# Altium schematic symbol library sch.SchLib: 22 symbols
Pins are listed as number, name and electrical type; pins without a type are passive.

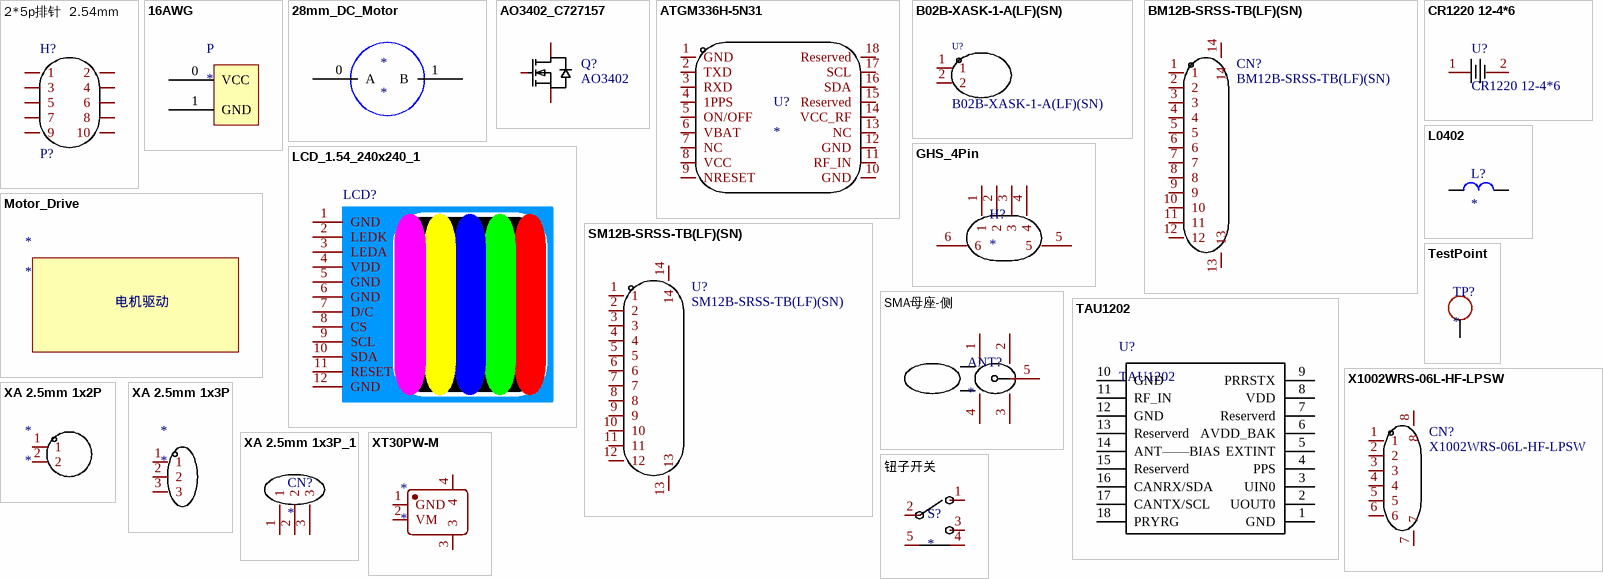
[diagram p0: symbols 2*5p排针  2.54mm to 钮子开关]

## 2*5p排针  2.54mm
designator H?  Header: P?  (hidden comment: 2*5p排针  2.54mm)
排针、排座、跳线帽/2.54mm2*40P直排针环保http://www.360yuanjian.com/product/details_2707.html和这个一样，但是是2*5P的; Symbol: Header-Male-2.54_2x5; Add into BOM: yes; Device: 2*5p排针  2.54mm; LCSC Part Name: 2.54mm 2*5p 排针; Supplier Part: C28207; Manufacturer Part: 2*5p排针  2.54mm; Supplier Footprint: Through Hole; JLCPCB Part Class: 扩展库; Datasheet: https://atta.szlcsc.com/upload/public/pdf/source/20140331/1457707039232.pdf; Supplier: LCSC; Convert to PCB: yes
3D model HDR2.54-M-LI-2X5P
footprint Header_2.54_2*5pin
pins: 1, 2, 3, 4, 5, 6, 7, 8, 9, 10

## 16AWG
designator P
footprint 16AWG
pins: 0 VCC, 1 GND

## 28mm_DC_Motor
designator *
footprint 28mm_DC_Motor
pins: 0 A, 1 B

## AO3402_C727157
designator Q?, comment AO3402
类型:-;漏源电压(Vdss):-;连续漏极电流(Id):-;功率(Pd):-;导通电阻(RDS(on)@Vgs,Id):-;阈值电压(Vgs(th)@Id):-;栅极电荷(Qg@Vgs):-;输入电容(Ciss@Vds):-;反向传输电容(Crss@Vds):-;; Manufacturer: TWGMC(台湾迪嘉); Symbol: AO3402_C727157; Add into BOM: yes; Device: AO3402_C727157; LCSC Part Name: AO3402; Supplier Part: C727157; Manufacturer Part: AO3402; Supplier Footprint: SOT23; JLCPCB Part Class: Extended Part; Datasheet: https://atta.szlcsc.com/upload/public/pdf/source/20200827/C727157_24A5691800B930A9C9FEB89C478A4123.pdf; Supplier: LCSC; Convert to PCB: yes; Type: -; Drain Source Voltage (Vdss): -; Continuous Drain Current (Id): -; Power Dissipation (Pd): -; Drain Source On Resistance (RDS(on)@Vgs,Id): -; Gate Threshold Voltage (Vgs(th)@Id): -; Total Gate Charge (Qg@Vgs): -; Input Capacitance (Ciss@Vds): -; Reverse Transfer Capacitance (Crss@Vds): -; Name: AO3402
footprint SOT-23-3_L2.9-W1.4-P1.91-LS2.6-BR
3D model SOT-23-3_L2.9-W1.4-P1.91-LS2.6-BR
pins: 1 G, 2 S, 3 D

## ATGM336H-5N31
designator U?
C90770
footprint ATGM336H-5N31
pins: 1 GND, 2 TXD, 3 RXD, 4 1PPS, 5 ON/OFF, 6 VBAT, 7 NC, 8 VCC, 9 NRESET, 10 GND, 11 RF_IN, 12 GND, 13 NC, 14 VCC_RF, 15 Reserved, 16 SDA, 17 SCL, 18 Reserved

## B02B-XASK-1-A(LF)(SN)
designator U?
参考系列:XA;间距:2.5mm;插针结构:1x2P;排数:1;每排PIN数:2;行距:-;安装方式:-;触头材质:铜合金;; Manufacturer: JST; Add into BOM: yes; Reference Series: XA; Pitch: 2.5mm; Pins Structure: 1x2P; Number of PINs Per Row: 2; Symbol: B02B-XASK-1-A(LF)(SN); Device: B02B-XASK-1-A(LF)(SN); LCSC Part Name: XA 2.5mm 1x2P; Supplier Part: C265077; Manufacturer Part: B02B-XASK-1-A(LF)(SN); Supplier Footprint: 插件,P=2.5mm; JLCPCB Part Class: Extended Part; Datasheet: https://atta.szlcsc.com/upload/public/pdf/source/20180829/C265077_AACBE43BFB9344D794AFC81CB60287FF.pdf; Supplier: LCSC; Convert to PCB: yes; Number of Rows: 1; Row Spacing: -; Mounting Style: -; Contact Material: 铜合金; Name: B02B-XASK-1-A(LF)(SN)
footprint CONN-TH_B02B-XASK-1-A-LF-SN
3D model CONN-TH_B02B-XASK-1-A-LF-SN
pins: 1, 2

## BM12B-SRSS-TB(LF)(SN)
designator CN?
参考系列:SH;间距:1mm;插针结构:1x12P;排数:1;每排PIN数:12;行距:-;公母:公型插针;安装方式:立贴;额定电流:1A;工作温度范围:-25℃~+85℃;; Manufacturer: JST; Add into BOM: yes; Reference Series: SH; Pitch: 1mm; Pins Structure: 1x12P; Number of PINs Per Row: 12; Gender: 公型插针; Current Rating (Max): 1A; Symbol: BM12B-SRSS-TB(LF)(SN); Device: BM12B-SRSS-TB(LF)(SN); LCSC Part Name: SH 1mm 1x12P 立贴; Supplier Part: C160398; Manufacturer Part: BM12B-SRSS-TB(LF)(SN); Supplier Footprint: SMD,P=1mm; JLCPCB Part Class: Extended Part; Datasheet: https://atta.szlcsc.com/upload/public/pdf/source/20200303/C160398_664CE80E7D34876E749B6A3BF9622536.pdf; Supplier: LCSC; Convert to PCB: yes; Number of Rows: 1; Row Spacing: -; Mounting Style: 立贴; Operating Temperature Range: -25℃~+85℃; Name: BM12B-SRSS-TB(LF)(SN)
footprint BM12B-SRSS-TB(LF)(SN)
pins: 1, 2, 3, 4, 5, 6, 7, 8, 9, 10, 11, 12, 13, 14

## CR1220 12-4*6
designator U?, comment Name: CR1220 12-4*6  (hidden comment: C70380)
电池；C70380; Manufacturer: Q&J; Add into BOM: yes; Symbol: CR1220 12-4*6; Device: CR1220 12-4*6; LCSC Part Name: Q&J卧式焊脚纽扣电池 CR1220; Supplier Part: C70380; Manufacturer Part: CR1220 12-4*6; Supplier Footprint: -; JLCPCB Part Class: Extended Part; Datasheet: https://atta.szlcsc.com/upload/public/pdf/source/20160427/1461725216655.pdf; Supplier: LCSC; Convert to PCB: yes
footprint CR1220 12-4*6
pins: 1, 2

## GHS_4Pin
designator H?
footprint GHS_4Pin
pins: 1, 2, 3, 4, 5, 6

## L0402
designator L?
电感
footprint CAPC1005[0402]S-N (0402贴片电容 有丝印 2脚 1.00x0.50mm IPC中密度)
pins: 1, 2

## LCD_1.54_240x240_1
designator LCD?, comment LCD_1.54_240x240  (value not drawn)
https://item.taobao.com/item.htm?spm=a1z0d.6639537/tb.1997196601.56.26747484fjFH0T&id=600653923469; Convert to PCB: yes; Symbol: LCD_1.54_240x240; Device: LCD_1.54_240x240; Add into BOM: yes
footprint LCD_1.54_240x240_1
pins: 1 GND, 2 LEDK, 3 LEDA, 4 VDD, 5 GND, 6 GND, 7 D/C, 8 CS, 9 SCL, 10 SDA, 11 RESET, 12 GND

## Motor_Drive
designator *
footprint Motor_Drive
text: 电机驱动

## SM12B-SRSS-TB(LF)(SN)
designator U?
参考系列:SR/SZ;间距:1mm;插针结构:1x12P;排数:1;每排PIN数:12;行距:-;安装方式:-;触头材质:铜合金;; Manufacturer: JST; Add into BOM: yes; Reference Series: SR/SZ; Pitch: 1mm; Pins Structure: 1x12P; Number of PINs Per Row: 12; Symbol: SM12B-SRSS-TB(LF)(SN); Device: SM12B-SRSS-TB(LF)(SN); LCSC Part Name: SR/SZ 1mm 1x12P; Supplier Part: C160411; Manufacturer Part: SM12B-SRSS-TB(LF)(SN); Supplier Footprint: -; JLCPCB Part Class: Extended Part; Datasheet: https://atta.szlcsc.com/upload/public/pdf/source/20180919/C160411_C3AF4B4C0FCE4F2F5A1368825BF81DC7.pdf; Supplier: LCSC; Convert to PCB: yes; Number of Rows: 1; Row Spacing: -; Mounting Style: -; Contact Material: 铜合金; Name: SM12B-SRSS-TB(LF)(SN)
footprint SM12B-SRSS-TB(LF)(SN)
pins: 1, 2, 3, 4, 5, 6, 7, 8, 9, 10, 11, 12, 13, 14

## SMA母座-侧
designator ANT?
footprint SMA-SMD_BWSMA-KE-P001
pins: 1, 2, 3, 4, 5

## TAU1202
designator U?
footprint TAU1202
pins: 1 GND, 2 UOUT0, 3 UIN0, 4 PPS, 5 EXTINT, 6 AVDD_BAK, 7 Reserverd, 8 VDD, 9 PRRSTX, 10 GND, 11 RF_IN, 12 GND, 13 Reserverd, 14 ANT——BIAS, 15 Reserverd, 16 CANRX/SDA, 17 CANTX/SCL, 18 PRYRG

## TestPoint
designator TP?
测试点
footprint TestPoint
pins: 0

## X1002WRS-06L-HF-LPSW
designator CN?
参考系列:-;间距:1mm;插针结构:1x6P;排数:1;每排PIN数:6;行距:-;公母:公型插针;安装方式:卧贴;额定电流:1A;触头材质:黄铜;触头镀层:锡;工作温度范围:-25℃~+85℃;焊接温度(最大值):260℃;; Manufacturer: XKB Connectivity(中国星坤); Add into BOM: yes; Pitch: 1mm; Pins Structure: 1x6P; Number of PINs Per Row: 6; Gender: 公型插针; Current Rating (Max): 1A; Welding Temperature (Max): 260℃; Symbol: X1002WRS-06L-HF-LPSW; Device: X1002WRS-06L-HF-LPSW; LCSC Part Name: 1mm 1x6P 卧贴; Supplier Part: C718185; Manufacturer Part: X1002WRS-06L-HF-LPSW; Supplier Footprint: SMD,P=1mm; JLCPCB Part Class: 扩展库; Datasheet: https://atta.szlcsc.com/upload/public/pdf/source/20200807/C718185_9E6A6AAA755987435690BB967CABC847.pdf; Supplier: LCSC; Convert to PCB: yes; Reference Series: -; Number of Rows: 1; Row Spacing: -; Mounting Style: 卧贴; Contact Material: 黄铜; Contact Plating: 锡; Operating Temperature Range: -25℃~+85℃; Name: X1002WRS-06L-HF-LPSW
footprint X1002WRS-06L-HF-LPSW
pins: 1, 2, 3, 4, 5, 6, 7, 8

## XA 2.5mm 1x2P
designator *
footprint XA 2.5mm 1x2P
pins: 1, 2

## XA 2.5mm 1x3P
designator *
footprint XA 2.5mm 1x3P
pins: 1, 2, 3

## XA 2.5mm 1x3P_1
designator CN?
C161670;S03B-XASS-1N-BN(LF)(SN)
footprint XA 2.5mm 1x3P - duplicate
pins: 1, 2, 3

## XT30PW-M
designator *
footprint XT30PW-M
pins: 1 GND, 2 VM, 3, 4

## 钮子开关
designator S?
footprint 钮子开关
pins: 1, 2, 3, 4, 5